# EAGLE library part BLUEFRUIT_EZLINK (library minty)
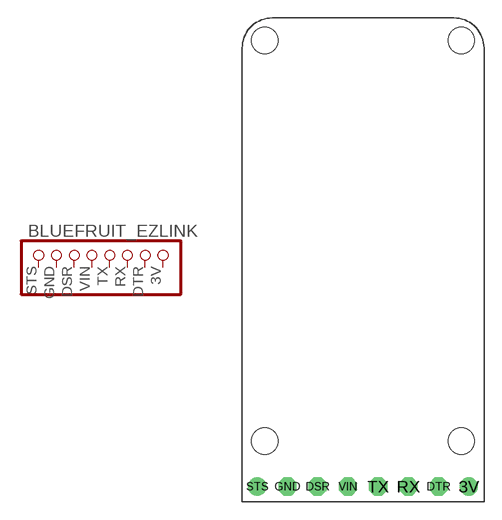
[diagram p3: symbol with the pads of BLUEFRUIT; footprint BLUEFRUIT]

Designator prefix BLUEFRUIT

## BLUEFRUIT_EZLINK  [BLUEFRUIT]
3V  3V  pwr
DSR  DSR
DTR  DTR
GND  GND  pwr
RX  RX
STS  STS
TX  TX
VIN  VIN  pwr

## Footprint BLUEFRUIT (pad centres in mm)
PIN HEADER
drill 1.016: 3V 8.89,-21.59; STS -8.89,-21.59
drill 1.016 octagon: DSR -3.81,-21.59; DTR 6.35,-21.59; GND -6.35,-21.59; RX 3.81,-21.59; TX 1.27,-21.59; VIN -1.27,-21.59
hole 2.2 at -8.255,-17.78
hole 2.2 at 8.255,-17.78
hole 2.2 at -8.255,15.875
hole 2.2 at 8.255,15.875